# EAGLE library part W9971 (library winbond-w9021x)
W9971 Winbond W9971 PCI SuperVGA graphics controller
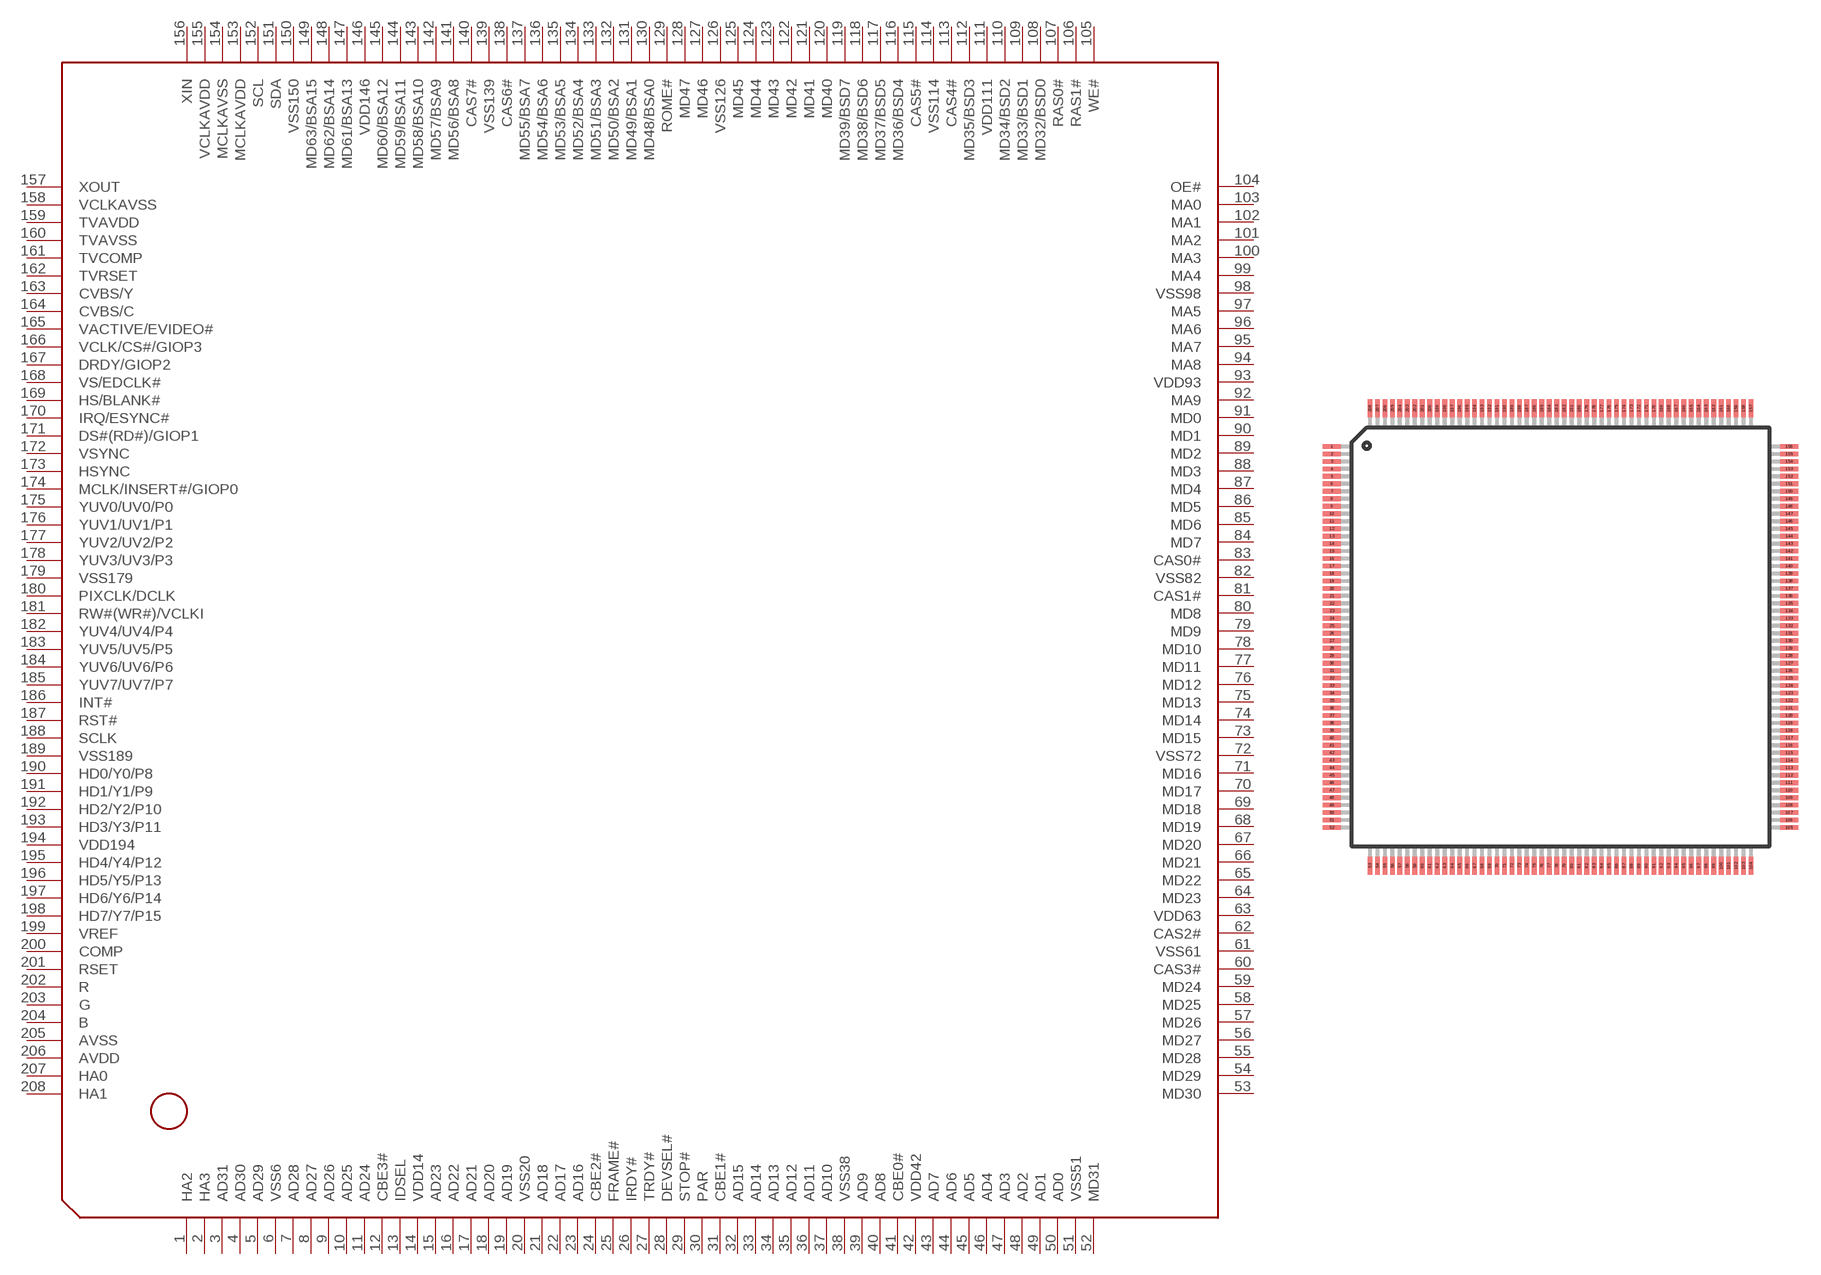
[diagram p1: symbol with the pads of PQFP208; footprint PQFP208]

Designator prefix -

## W9971QFP208  [PQFP208]
1  HA2  out
2  HA3  out
3  AD31
4  AD30
5  AD29
6  VSS6  pwr
7  AD28
8  AD27
9  AD26
10  AD25
11  AD24
12  CBE3#  in
13  IDSEL  in
14  VDD14  pwr
15  AD23
16  AD22
17  AD21
18  AD20
19  AD19
20  VSS20  pwr
21  AD18
22  AD17
23  AD16
24  CBE2#  in
25  FRAME#  in
26  IRDY#  in
27  TRDY#
28  DEVSEL#
29  STOP#
30  PAR
31  CBE1#  in
32  AD15
33  AD14
34  AD13
35  AD12
36  AD11
37  AD10
38  VSS38  pwr
39  AD9
40  AD8
41  CBE0#  in
42  VDD42  pwr
43  AD7
44  AD6
45  AD5
46  AD4
47  AD3
48  AD2
49  AD1
50  AD0
51  VSS51  pwr
52  MD31
53  MD30
54  MD29
55  MD28
56  MD27
57  MD26
58  MD25
59  MD24
60  CAS3#  out
61  VSS61  pwr
62  CAS2#  out
63  VDD63  pwr
64  MD23
65  MD22
66  MD21
67  MD20
68  MD19
69  MD18
70  MD17
71  MD16
72  VSS72  pwr
73  MD15
74  MD14
75  MD13
76  MD12
77  MD11
78  MD10
79  MD9
80  MD8
81  CAS1#  out
82  VSS82  pwr
83  CAS0#  out
84  MD7
85  MD6
86  MD5
87  MD4
88  MD3
89  MD2
90  MD1
91  MD0
92  MA9  out
93  VDD93  pwr
94  MA8  out
95  MA7  out
96  MA6  out
97  MA5  out
98  VSS98  pwr
99  MA4  out
100  MA3  out
101  MA2  out
102  MA1  out
103  MA0  out
104  OE#  out
105  WE#  out
106  RAS1#  out
107  RAS0#  out
108  MD32/BSD0
109  MD33/BSD1
110  MD34/BSD2
111  VDD111  pwr
112  MD35/BSD3
113  CAS4#  out
114  VSS114  pwr
115  CAS5#  out
116  MD36/BSD4
117  MD37/BSD5
118  MD38/BSD6
119  MD39/BSD7
120  MD40
121  MD41
122  MD42
123  MD43
124  MD44
125  MD45
126  VSS126  pwr
127  MD46
128  MD47
129  ROME#  out
130  MD48/BSA0
131  MD49/BSA1
132  MD50/BSA2
133  MD51/BSA3
134  MD52/BSA4
135  MD53/BSA5
136  MD54/BSA6
137  MD55/BSA7
138  CAS6#  out
139  VSS139  pwr
140  CAS7#  out
141  MD56/BSA8
142  MD57/BSA9
143  MD58/BSA10
144  MD59/BSA11
145  MD60/BSA12
146  VDD146  pwr
147  MD61/BSA13
148  MD62/BSA14
149  MD63/BSA15
150  VSS150  pwr
151  SDA
152  SCL
153  MCLKAVDD  pwr
154  MCLKAVSS  pwr
155  VCLKAVDD  pwr
156  XIN  in
157  XOUT  out
158  VCLKAVSS  pwr
159  TVAVDD  pwr
160  TVAVSS  pwr
161  TVCOMP  in
162  TVRSET  in
163  CVBS/Y  out
164  CVBS/C  out
165  VACTIVE/EVIDEO#
166  VCLK/CS#/GIOP3
167  DRDY/GIOP2
168  VS/EDCLK#
169  HS/BLANK#
170  IRQ/ESYNC#
171  DS#(RD#)/GIOP1
172  VSYNC
173  HSYNC
174  MCLK/INSERT#/GIOP0
175  YUV0/UV0/P0
176  YUV1/UV1/P1
177  YUV2/UV2/P2
178  YUV3/UV3/P3
179  VSS179  pwr
180  PIXCLK/DCLK
181  RW#(WR#)/VCLKI
182  YUV4/UV4/P4
183  YUV5/UV5/P5
184  YUV6/UV6/P6
185  YUV7/UV7/P7
186  INT#  out
187  RST#  in
188  SCLK  in
189  VSS189  pwr
190  HD0/Y0/P8
191  HD1/Y1/P9
192  HD2/Y2/P10
193  HD3/Y3/P11
194  VDD194  pwr
195  HD4/Y4/P12
196  HD5/Y5/P13
197  HD6/Y6/P14
198  HD7/Y7/P15
199  VREF  in
200  COMP  in
201  RSET  in
202  R  out
203  G  out
204  B  out
205  AVSS  pwr
206  AVDD  pwr
207  HA0  out
208  HA1  out

## Footprint PQFP208 (pad centres in mm)
PQFP208 208-Pin Plastic Quad Flat Pack
smd 1.2 x 0.32: 1 -15.3,12.75; 2 -15.3,12.25; 3 -15.3,11.75; 4 -15.3,11.25; 5 -15.3,10.75; 6 -15.3,10.25; 7 -15.3,9.75; 8 -15.3,9.25; 9 -15.3,8.75; 10 -15.3,8.25; 11 -15.3,7.75; 12 -15.3,7.25; 13 -15.3,6.75; 14 -15.3,6.25; 15 -15.3,5.75; 16 -15.3,5.25; 17 -15.3,4.75; 18 -15.3,4.25; 19 -15.3,3.75; 20 -15.3,3.25; 21 -15.3,2.75; 22 -15.3,2.25; 23 -15.3,1.75; 24 -15.3,1.25; 25 -15.3,0.75; 26 -15.3,0.25; 27 -15.3,-0.25; 28 -15.3,-0.75; 29 -15.3,-1.25; 30 -15.3,-1.75; 31 -15.3,-2.25; 32 -15.3,-2.75; 33 -15.3,-3.25; 34 -15.3,-3.75; 35 -15.3,-4.25; 36 -15.3,-4.75; 37 -15.3,-5.25; 38 -15.3,-5.75; 39 -15.3,-6.25; 40 -15.3,-6.75; 41 -15.3,-7.25; 42 -15.3,-7.75; 43 -15.3,-8.25; 44 -15.3,-8.75; 45 -15.3,-9.25; 46 -15.3,-9.75; 47 -15.3,-10.25; 48 -15.3,-10.75; 49 -15.3,-11.25; 50 -15.3,-11.75; 51 -15.3,-12.25; 52 -15.3,-12.75; 105 15.3,-12.75; 106 15.3,-12.25; 107 15.3,-11.75; 108 15.3,-11.25; 109 15.3,-10.75; 110 15.3,-10.25; 111 15.3,-9.75; 112 15.3,-9.25; 113 15.3,-8.75; 114 15.3,-8.25; 115 15.3,-7.75; 116 15.3,-7.25; 117 15.3,-6.75; 118 15.3,-6.25; 119 15.3,-5.75; 120 15.3,-5.25; 121 15.3,-4.75; 122 15.3,-4.25; 123 15.3,-3.75; 124 15.3,-3.25; 125 15.3,-2.75; 126 15.3,-2.25; 127 15.3,-1.75; 128 15.3,-1.25; 129 15.3,-0.75; 130 15.3,-0.25; 131 15.3,0.25; 132 15.3,0.75; 133 15.3,1.25; 134 15.3,1.75; 135 15.3,2.25; 136 15.3,2.75; 137 15.3,3.25; 138 15.3,3.75; 139 15.3,4.25; 140 15.3,4.75; 141 15.3,5.25; 142 15.3,5.75; 143 15.3,6.25; 144 15.3,6.75; 145 15.3,7.25; 146 15.3,7.75; 147 15.3,8.25; 148 15.3,8.75; 149 15.3,9.25; 150 15.3,9.75; 151 15.3,10.25; 152 15.3,10.75; 153 15.3,11.25; 154 15.3,11.75; 155 15.3,12.25; 156 15.3,12.75
smd 0.32 x 1.2: 53 -12.75,-15.3; 54 -12.25,-15.3; 55 -11.75,-15.3; 56 -11.25,-15.3; 57 -10.75,-15.3; 58 -10.25,-15.3; 59 -9.75,-15.3; 60 -9.25,-15.3; 61 -8.75,-15.3; 62 -8.25,-15.3; 63 -7.75,-15.3; 64 -7.25,-15.3; 65 -6.75,-15.3; 66 -6.25,-15.3; 67 -5.75,-15.3; 68 -5.25,-15.3; 69 -4.75,-15.3; 70 -4.25,-15.3; 71 -3.75,-15.3; 72 -3.25,-15.3; 73 -2.75,-15.3; 74 -2.25,-15.3; 75 -1.75,-15.3; 76 -1.25,-15.3; 77 -0.75,-15.3; 78 -0.25,-15.3; 79 0.25,-15.3; 80 0.75,-15.3; 81 1.25,-15.3; 82 1.75,-15.3; 83 2.25,-15.3; 84 2.75,-15.3; 85 3.25,-15.3; 86 3.75,-15.3; 87 4.25,-15.3; 88 4.75,-15.3; 89 5.25,-15.3; 90 5.75,-15.3; 91 6.25,-15.3; 92 6.75,-15.3; 93 7.25,-15.3; 94 7.75,-15.3; 95 8.25,-15.3; 96 8.75,-15.3; 97 9.25,-15.3; 98 9.75,-15.3; 99 10.25,-15.3; 100 10.75,-15.3; 101 11.25,-15.3; 102 11.75,-15.3; 103 12.25,-15.3; 104 12.75,-15.3; 157 12.75,15.3; 158 12.25,15.3; 159 11.75,15.3; 160 11.25,15.3; 161 10.75,15.3; 162 10.25,15.3; 163 9.75,15.3; 164 9.25,15.3; 165 8.75,15.3; 166 8.25,15.3; 167 7.75,15.3; 168 7.25,15.3; 169 6.75,15.3; 170 6.25,15.3; 171 5.75,15.3; 172 5.25,15.3; 173 4.75,15.3; 174 4.25,15.3; 175 3.75,15.3; 176 3.25,15.3; 177 2.75,15.3; 178 2.25,15.3; 179 1.75,15.3; 180 1.25,15.3; 181 0.75,15.3; 182 0.25,15.3; 183 -0.25,15.3; 184 -0.75,15.3; 185 -1.25,15.3; 186 -1.75,15.3; 187 -2.25,15.3; 188 -2.75,15.3; 189 -3.25,15.3; 190 -3.75,15.3; 191 -4.25,15.3; 192 -4.75,15.3; 193 -5.25,15.3; 194 -5.75,15.3; 195 -6.25,15.3; 196 -6.75,15.3; 197 -7.25,15.3; 198 -7.75,15.3; 199 -8.25,15.3; 200 -8.75,15.3; 201 -9.25,15.3; 202 -9.75,15.3; 203 -10.25,15.3; 204 -10.75,15.3; 205 -11.25,15.3; 206 -11.75,15.3; 207 -12.25,15.3; 208 -12.75,15.3